# Altium schematic symbol library Schlib1.SchLib: 1 symbol
Pins are listed as number, name and electrical type; pins without a type are passive.

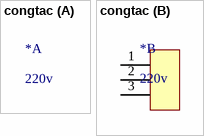
[diagram p0: symbol congtac]

## congtac
designator *, comment 220v
footprint congtac
part B pins: 1, 2, 3